# Altium schematic symbol library BloodPresure.SchLib: 3 symbols
Pins are listed as number, name and electrical type; pins without a type are passive.

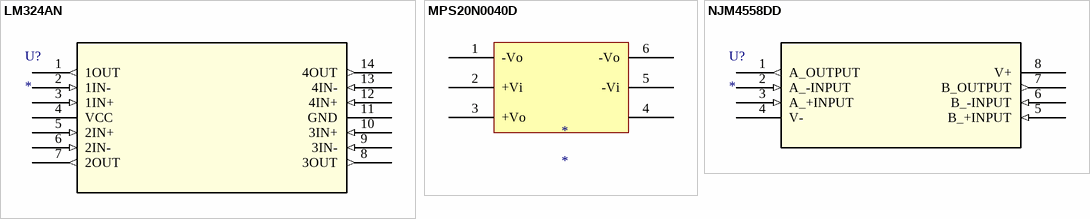
[diagram p0: symbols LM324AN to NJM4558DD]

## LM324AN
designator U?
No Description Available; Mfr_Name: Texas Instruments; RefDes: RefDes; Type: Type
footprint N14
pins: 1 1OUT (out), 2 1IN- (in), 3 1IN+ (in), 4 VCC (power), 5 2IN+ (in), 6 2IN- (in), 7 2OUT (out), 8 3OUT (out), 9 3IN- (in), 10 3IN+ (in), 11 GND (power), 12 4IN+ (in), 13 4IN- (in), 14 4OUT (out)

## MPS20N0040D
designator *
footprint MPS20N0040D
pins: 1 -Vo, 2 +Vi, 3 +Vo, 4, 5 -Vi, 6 -Vo

## NJM4558DD
designator U?
No Description Available; Mfr_Name: Nisshinbo Micro Devices; RefDes: RefDes; Type: Type
footprint DIP8_NMD
pins: 1 A_OUTPUT (out), 2 A_-INPUT (in), 3 A_+INPUT (in), 4 V- (power), 5 B_+INPUT (in), 6 B_-INPUT (in), 7 B_OUTPUT (out), 8 V+ (power)